# Altium schematic symbol library AD8129.SchLib: 1 symbol
Pins are listed as number, name and electrical type; pins without a type are passive.

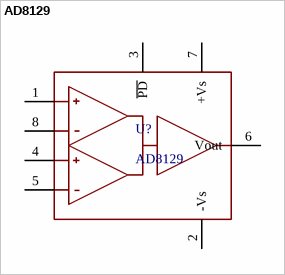
[diagram p0: symbol AD8129]

## AD8129
designator U?
Low Cost 270 MHz   Differential Receiver Amplifiers
footprint ADI-R-8_L (SOIC, 8-Leads, Body 4.9x3.9mm, Pitch 1.27mm, IPC High Density)
footprint ADI-R-8_N (SOIC, 8-Leads, Body 4.9x3.9mm, Pitch 1.27mm, IPC Medium Density)
footprint ADI-R-8_M (SOIC, 8-Leads, Body 4.9x3.9mm, Pitch 1.27mm, IPC Low Density)
pins: 1 "Termal Pad", 2 -Vs "Termal Pad", 3 ~{PD} "Termal Pad", 4 "Termal Pad", 5 "Termal Pad", 6 Vout "Termal Pad", 7 +Vs "Termal Pad", 8 "Termal Pad"